# EAGLE library part M20-8750542 (library SamacSys_Parts)
Headers & Wire Housings 2.54mm 5+5 DIL SMT P/HDR W/PEGS Source: Datasheet <https://www.harwin.com/products/M20-8750542/>
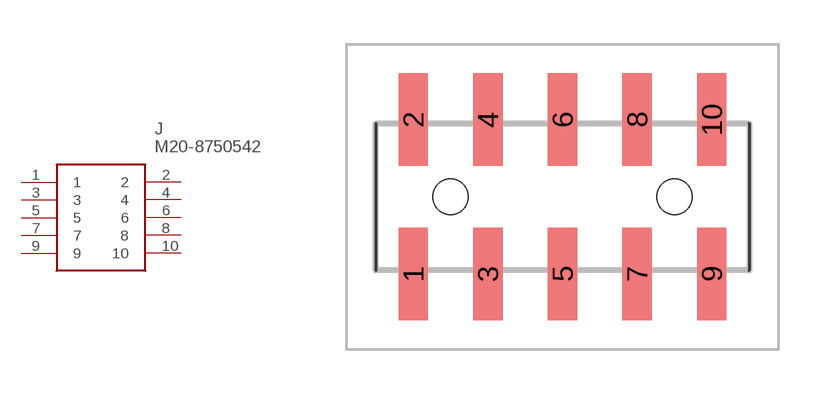
[diagram p3: symbol with the pads of M208750542; footprint M208750542]

Designator prefix J

## M20-8750542 (Description: Headers & Wire Housings 2.54mm 5+5 DIL SMT P/HDR W/PEGS; Height: 8mm; Manufacturer_Name: Harwin; Manufacturer_Part_Number: M20-8750542; Mouser_Part_Number: 855-M20-8750542; Mouser_Price-Stock: https://www.mouser.co.uk/ProductDetail/Harwin/M20-8750542?qs=k41KVqW3ymq%2FRcq8Ph00Tg%3D%3D)  [M208750542]
1  1
2  2
3  3
4  4
5  5
6  6
7  7
8  8
9  9
10  10

## Footprint M208750542 (pad centres in mm)
M20-8750542
smd 1 x 3.15: 1 -5.08,-2.625; 2 -5.08,2.625; 3 -2.54,-2.625; 4 -2.54,2.625; 5 0,-2.625; 6 0,2.625; 7 2.54,-2.625; 8 2.54,2.625; 9 5.08,-2.625; 10 5.08,2.625
hole 1.2 at -3.81,0
hole 1.2 at 3.81,0